# EAGLE library part L3G4200D (library Sensors)
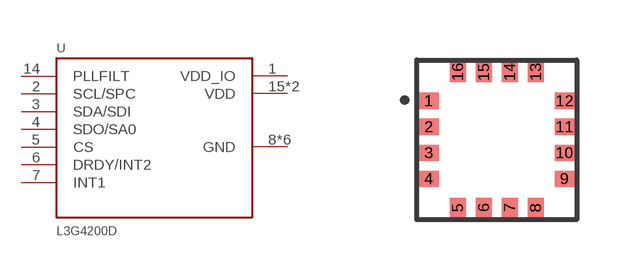
[diagram p1: symbol with the pads of LGA-16L-4X4X1.1; footprint LGA-16L-4X4X1.1]

Designator prefix -

## L3G4200D  [LGA-16L-4X4X1.1]
1  VDD_IO
2  SCL/SPC
3  SDA/SDI
4  SDO/SA0
5  CS
6  DRDY/INT2
7  INT1
8  GND
9  GND
10  GND
11  GND
12  GND
13  GND
14  PLLFILT
15  VDD
16  VDD

## Footprint LGA-16L-4X4X1.1 (pad centres in mm)
smd 0.5 x 0.4: 1 0.3,2.975; 2 0.3,2.325; 3 0.3,1.675; 4 0.3,1.025; 9 3.7,1.025; 10 3.7,1.675; 11 3.7,2.325; 12 3.7,2.975
smd 0.4 x 0.5: 5 1.025,0.3; 6 1.675,0.3; 7 2.325,0.3; 8 2.975,0.3; 13 2.975,3.7; 14 2.325,3.7; 15 1.675,3.7; 16 1.025,3.7